# EAGLE library part SPH0645LM4H-B (library SPH0645LM4H-B)
Mic Mems Digital I2s Omni -26db
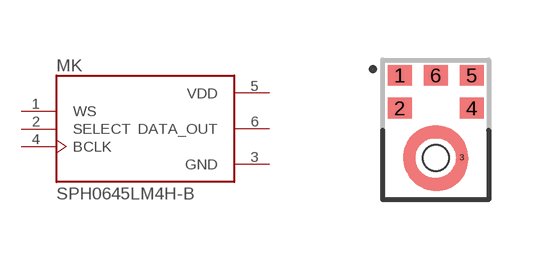
[diagram p0: symbol with the pads of MIC_SPH0645LM4H-B; footprint MIC_SPH0645LM4H-B]

Designator prefix MK

## SPH0645LM4H-B (DESCRIPTION: Mic Mems Digital I2s Omni -26db; DIGI-KEY_PART_NUMBER: 423-1405-1-ND; DIGI-KEY_PURCHASE_URL: https://www.digikey.co.nz/product-detail/en/knowles/SPH0645LM4H-B/423-1405-1-ND/5332432?utm_source=snapeda&utm_medium=aggregator&utm_campaign=symbol; MF: Knowles; MP: SPH0645LM4H-B; PACKAGE: SIP-7 Bourns)  [MIC_SPH0645LM4H-B]
1  WS  in
2  SELECT  in
3  GND  pwr
4  BCLK  in
5  VDD  pwr
6  DATA_OUT  out

## Footprint MIC_SPH0645LM4H-B (pad centres in mm)
smd 0.6 x 0.522: 1 -0.9,2.074; 2 -0.9,1.252; 4 0.9,1.252; 5 0.9,2.074; 6 0,2.074
smd 0.1 x 0.1: 3 0.65,0.02
hole 0.65 at 0,0